# EAGLE library part TLS1233 (library TLS1233)
The TLS1233 is a 100-MHz wide-band video preamplifier system intended for mid-to-high-resolution RGB (red-green-blue) color monitors. Each video amplifier (R, G, and B) contains a gain set for adjusting maximum system gain (AV = 7.8 V/V). The TLS1233 provides digital level-operated contrast, brightness, and gain adjustment control. All the control inputs offer high input impedance and an operation range from 0 V to 4 V for easy interface to the serial digital buses.
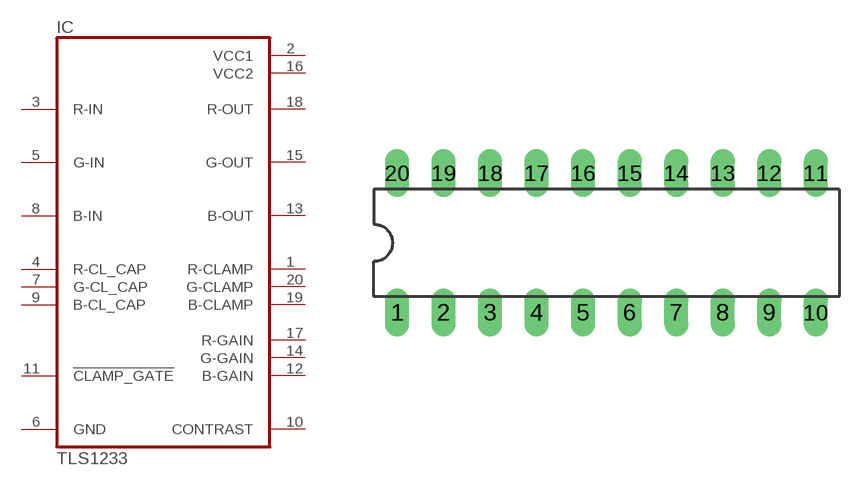
[diagram p0: symbol with the pads of DIL20; footprint DIL20]

Designator prefix IC

## TLS1233  [DIL20]
1  R-CLAMP  in
2  VCC1  pwr
3  R-IN  in
4  R-CL_CAP  in
5  G-IN  in
6  GND  pas
7  G-CL_CAP  in
8  B-IN  in
9  B-CL_CAP  in
10  CONTRAST  in
11  !CLAMP_GATE  in
12  B-GAIN  in
13  B-OUT  out
14  G-GAIN  in
15  G-OUT  out
16  VCC2  pwr
17  R-GAIN  in
18  R-OUT  out
19  B-CLAMP  in
20  G-CLAMP  in

## Footprint DIL20 (pad centres in mm)
Dual In Line Package
drill 0.813 long: 1 -11.43,-3.81; 2 -8.89,-3.81; 3 -6.35,-3.81; 4 -3.81,-3.81; 5 -1.27,-3.81; 6 1.27,-3.81; 7 3.81,-3.81; 8 6.35,-3.81; 9 8.89,-3.81; 10 11.43,-3.81; 11 11.43,3.81; 12 8.89,3.81; 13 6.35,3.81; 14 3.81,3.81; 15 1.27,3.81; 16 -1.27,3.81; 17 -3.81,3.81; 18 -6.35,3.81; 19 -8.89,3.81; 20 -11.43,3.81